# EAGLE library part LM22676 (library personal)
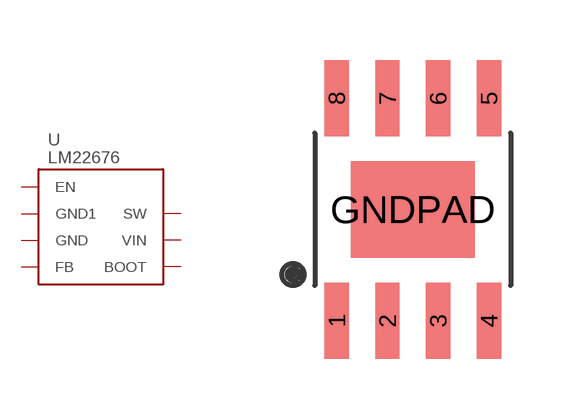
[diagram p2: symbol with the pads of PSOP-8; footprint PSOP-8]

Designator prefix U

## LM22676  [PSOP-8]
1  BOOT  pas
4  FB  pas
5  EN  pas
6  GND  pas
7  VIN  pas
8  SW  pas
GNDPAD  GND1  pas

## Footprint PSOP-8 (pad centres in mm)
smd 0.61 x 1.905: 1 -1.905,-2.781; 2 -0.635,-2.781; 3 0.635,-2.781; 4 1.905,-2.781; 5 1.905,2.781; 6 0.635,2.781; 7 -0.635,2.781; 8 -1.905,2.781
smd 3.099 x 2.413: GNDPAD 0,0